# Altium schematic symbol library SILICA_SCHLIB.SchLib: 303 symbols (part 1 of 4)
Pins are listed as number, name and electrical type; pins without a type are passive.

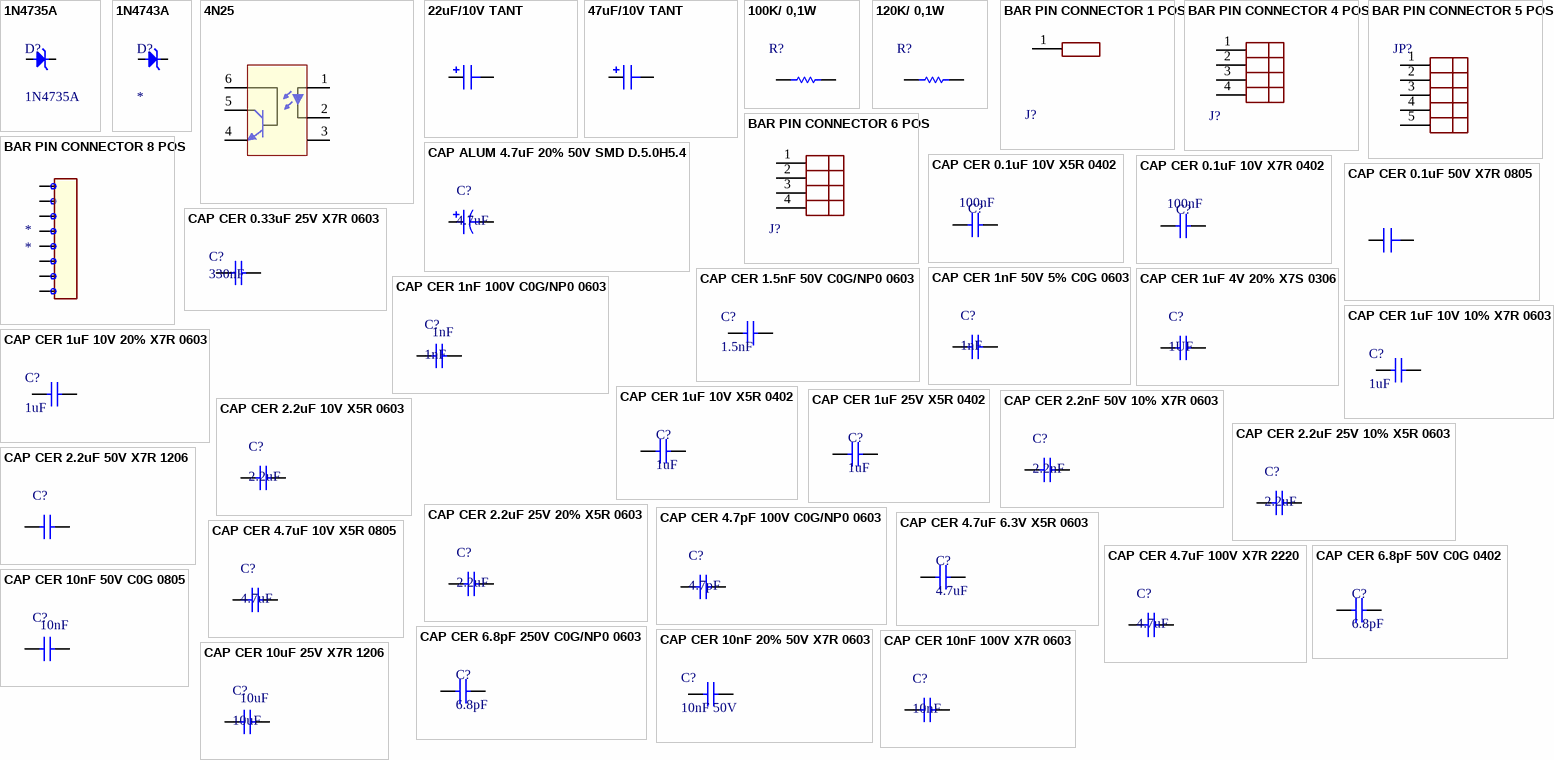
[diagram p0: symbols 1N4735A to CAP CER 10uF 25V X7R 1206]

## 1N4735A
designator D?
Diodo Zener 6,2V / 1W; FARCHILD: 1N4735A
footprint DO-41
pins: A, K

## 1N4743A
designator D?
Diodo Zener 13V / 1W; FARCHILD: 1N4743A
footprint DO-41
pins: A, K

## 4N25
designator U?
OPTICAL ISOLATOR; VISHAY: 4N25
footprint DIP-6 (OPTO)
footprint DIP-6 (OPTO)
pins: 1, 2, 3, 4, 5, 6

## 22uF/10V TANT
designator C?
22uF/10V TANT CASE B; AVX: TAJB226K010R
footprint CAP TANT CASE B - 1210 EIA (KEMET SERIES)
pins: 1, 2

## 47uF/10V TANT
designator C?
47uF/10V TANT CASE C; AVX: TAJC476K010R
footprint CAP TANT CASE C - 2310 EIA (AVX SERIES)
pins: 1, 2

## 100K/ 0,1W
designator R?, comment 100K / 0,1W  (value not drawn)
RESISTOR  100K / 0,1W SMD 0805 1%; VISHAY: CRCW0805100KFKEA; MULTICOMP: MC 0.1W 0805 1% 100K
footprint SMD_0805 (Generic 0805 SMD footprint)
pins: 1, 2

## 120K/ 0,1W
designator R?, comment 120K / 0,1W  (value not drawn)
RESISTOR  120K / 0,1W SMD 0805 1%; VISHAY: CRCW0805120KFKEB; MULTICOMP: MC 0.1W 0805 1% 120K
footprint SMD_0805 (Generic 0805 SMD footprint)
pins: 1, 2

## BAR PIN CONNECTOR 1 POS
designator J?  (value not drawn)
footprint BAR PIN 1 POS
pins: 1

## BAR PIN CONNECTOR 4 POS
designator J?  (value not drawn)
footprint BAR PIN CONNECTOR 4 POS
pins: 1, 2, 3, 4

## BAR PIN CONNECTOR 5 POS
designator JP?  (value not drawn)
footprint BAR PIN CONNECTOR 5 POS (BAR PIN CONNECTOR 6 POS)
pins: 1, 2, 3, 4, 5

## BAR PIN CONNECTOR 6 POS
designator J?  (value not drawn)
footprint BAR PIN CONNECTOR 4 POS
pins: 1, 2, 3, 4

## BAR PIN CONNECTOR 8 POS
designator *
footprint BAR PIN CONNECTOR 10 POS
pins: 1, 2, 3, 4, 5, 6, 7, 8

## CAP ALUM 4.7uF 20% 50V SMD D.5.0H5.4
designator C?, comment 4.7uF
4.7µF 50V Aluminum Electrolytic Capacitors Radial, Can - SMD  2000 Hrs @ 85°C; Manufacturer 1: Nichicon; Part Number 1: UWX1H4R7MCL1GB; VALUE: 4.7uF
pins: 1, 2

## CAP CER 0.1uF 10V X5R 0402
designator C?, comment 100nF
0.1µF ±10% 10V Ceramic Capacitor X5R 0402 (1005 Metric); Manufacturer Part Number 1: CL05A104KP5NNNC; Manufacturer 1: Samsung Electro-Mechanics; TYPE: SMD CAPACITOR; Supplier 1: Allied; Supplier 2: Newark; Supplier 3: Newark; Supplier 4: Newark; Supplier 5: Allied; Supplier 6: Digi-Key; Supplier 7: Digi-Key; Supplier 8: Digi-Key; Supplier 9: Digi-Key; Supplier Part Number 1: 70095395; Supplier Part Number 2: 81C8514; Supplier Part Number 3: 96M1117; Supplier Part Number 4: 49H5566; Supplier Part Number 5: 70096886; Supplier Part Number 6: 445-12156-2-ND; Supplier Part Number 7: 445-12156-1-ND; Supplier Part Number 8: 445-12156-6-ND; Supplier Part Number 9: 445-12157-2-ND; VALUE: 100nF
footprint SMD_0402
pins: 1, 2

## CAP CER 0.1uF 10V X7R 0402
designator C?, comment 100nF
0.1µF ±10% 10V Ceramic Capacitor X7R 0402 (1005 Metric); Part Number 1: GRM155R71A104KA01J; Manufacturer 1: Murata Electronics North America; TYPE: SMD CAPACITOR; Supplier 1: Digi-Key; Supplier 2: Digi-Key; Supplier 3: Digi-Key; Supplier 4: Digi-Key; Supplier 5: Digi-Key; Supplier 6: Digi-Key; Supplier 7: Digi-Key; Supplier 8: Digi-Key; Supplier 9: Digi-Key; Supplier Part Number 1: 490-6322-2-ND; Supplier Part Number 2: 399-3520-6-ND; Supplier Part Number 3: 399-8942-1-ND; Supplier Part Number 4: 399-3520-1-ND; Supplier Part Number 5: 1276-1002-2-ND; Supplier Part Number 6: 399-8942-6-ND; Supplier Part Number 7: 490-6322-6-ND; Supplier Part Number 8: 399-3520-2-ND; Supplier Part Number 9: 490-6322-1-ND; VALUE: 100nF
footprint SMD_0402
pins: 1, 2

## CAP CER 0.1uF 50V X7R 0805
designator C?, comment 0.1uF
0.1µF ±10% 50V Ceramic Capacitor X7R 0805 (2012 Metric); Manufacturer 1: AVX; AVX: 08055C104KAT2A; Part Number 1: 08055C104KAT2A
footprint SMD_0805 (Generic 0805 SMD footprint)
pins: 1, 2

## CAP CER 0.33uF 25V X7R 0603
designator C?, comment 330nF
0.33µF ±10% 25V Ceramic Capacitor X7R 0603 (1608 Metric); Manufacturer 1: Yageo; Part Number 1: CC0603KRX7R8BB334
footprint SMD_0603 (General SMD 0603 footprint)
pins: 1, 2

## CAP CER 1.5nF 50V C0G/NP0 0603
designator C?, comment 1.5nF
1500pF ±5% 50V Ceramic Capacitor C0G, NP0 0603 (1608 Metric); Part Number 1: C0603C152J5GACTU; Manufacturer 1: KEMET
footprint SMD_0603 (General SMD 0603 footprint)
pins: 1, 2

## CAP CER 1nF 50V 5% C0G 0603
designator C?, comment 1nF
1000pF ±5% 50V Ceramic Capacitor C0G, NP0 0603 (1608 Metric); Manufacturer 1: MURATA; DESCRIPITION: GRM1885C1H102JA01D; Part Number 1: GRM1885C1H102JA01D; VALUE: 1nF
footprint SMD_0603 (General SMD 0603 footprint)
pins: 1, 2

## CAP CER 1nF 100V C0G/NP0 0603
designator C?, comment 1nF
1000pF ±1% 100V Ceramic Capacitor C0G, NP0 0603 (1608 Metric); Part Number 1: GRM1885C2A102FA01D; Manufacturer 1: Murata Electronics North America; TYPE: SMD CAPACITOR; VALUE: 1nF
footprint SMD_0603 (General SMD 0603 footprint)
pins: 1, 2

## CAP CER 1uF 4V 20% X7S 0306
designator C?, comment 1UF
1µF ±20% 4V Ceramic Capacitor X7S 0306 (0816 Metric); Part Number 1: C0816X7S0G105M050AC; Manufacturer 1: TDK Corporation
footprint SMD_0306 (General SMD 0306 footprint)
pins: 1, 2

## CAP CER 1uF 10V 10% X7R 0603
designator C?, comment 1uF
1µF ±10% 10V Ceramic Capacitor X7R 0603 (1608 Metric); Manufacturer 1: Taiyo Yuden; TAIYO: LMK107B7105KA-T; Part Number 1: LMK107B7105KA-T
footprint SMD_0603 (General SMD 0603 footprint)
pins: 1, 2

## CAP CER 1uF 10V 20% X7R 0603
designator C?, comment 1uF
1µF ±10% 16V Ceramic Capacitor X7R 0603 (1608 Metric); Manufacturer 1: Samsung Electro-Mechanics; Part Number 1: CL10B105KO8NNNC; MURATA: GRM188R71A105MA61D
footprint SMD_0603 (General SMD 0603 footprint)
pins: 1, 2

## CAP CER 1uF 10V X5R 0402
designator C?, comment 1uF
0.1µF ±10% 10V Ceramic Capacitor X5R 0402 (1005 Metric); Manufacturer 1: AVX Corporation; Part Number 1: 0402ZD104KAT2A; Supplier 1: Digi-Key; Supplier 2: Digi-Key; Supplier 3: Digi-Key; Supplier 4: Digi-Key; Supplier 5: Digi-Key; Supplier 6: Digi-Key; Supplier 7: Digi-Key; Supplier 8: Digi-Key; Supplier 9: Digi-Key; Supplier 10: Digi-Key; Supplier Part Number 1: 478-1129-6-ND; Supplier Part Number 2: 490-1318-2-ND; Supplier Part Number 3: 478-1129-1-ND; Supplier Part Number 4: 490-1318-6-ND; Supplier Part Number 5: 587-1227-1-ND; Supplier Part Number 6: 490-1318-1-ND; Supplier Part Number 7: 587-1227-2-ND; Supplier Part Number 8: 587-1227-6-ND; Supplier Part Number 9: 445-1265-2-ND; Supplier Part Number 10: 478-1129-2-ND; VALUE: 1uF
footprint SMD_0402
pins: 1, 2

## CAP CER 1uF 25V X5R 0402
designator C?, comment 1uF
1µF ±10% 25V Ceramic Capacitor X5R 0402 (1005 Metric); Manufacturer 1: TDK Corporation; Part Number 1: CGB2A1X5R1E105K033BC; VALUE: 1uF; Supplier 1: RSComponents; Supplier 2: RSComponents; Supplier 3: RSComponents; Supplier 4: RSComponents; Supplier 5: RSComponents; Supplier 6: Digi-Key; Supplier 7: Digi-Key; Supplier 8: Digi-Key; Supplier 9: Digi-Key; Supplier 10: Digi-Key; Supplier 11: Digi-Key; Supplier 12: Digi-Key; Supplier 13: Digi-Key; Supplier 14: Digi-Key; Supplier 15: Digi-Key; Supplier Part Number 1: 9156323; Supplier Part Number 2: 1110310; Supplier Part Number 3: 1110311; Supplier Part Number 4: 9156332P; Supplier Part Number 5: 9156323P; Supplier Part Number 6: 445-175215-2-ND; Supplier Part Number 7: 587-3245-2-ND; Supplier Part Number 8: 445-9081-6-ND; Supplier Part Number 9: 445-9066-6-ND; Supplier Part Number 10: 587-3245-1-ND; Supplier Part Number 11: 445-9066-1-ND; Supplier Part Number 12: 445-9081-1-ND; Supplier Part Number 13: 445-9081-2-ND; Supplier Part Number 14: 445-9066-2-ND; Supplier Part Number 15: 587-3245-6-ND
footprint SMD_0402
pins: 1, 2

## CAP CER 2.2nF 50V 10% X7R 0603
designator C?, comment 2.2nF
2200pF ±10% 50V Ceramic Capacitor X7R 0603 (1608 Metric); Part Number 1: C1608X7R1H222K080AE; Manufacturer 1: TDK Corporation; VALUE: 2.2nF
footprint SMD_0603 (General SMD 0603 footprint)
pins: 1, 2

## CAP CER 2.2uF 10V X5R 0603
designator C?, comment 2.2uF
2.2µF ±10% 10V Ceramic Capacitor X5R 0603 (1608 Metric); Manufacturer 1: Samsung Electro-Mechanics; Part Number 1: CL10A225KP8NNNC; VALUE: 2.2uF; Supplier 1: RSComponents; Supplier 2: Digi-Key; Supplier 3: Digi-Key; Supplier 4: Digi-Key; Supplier 5: Digi-Key; Supplier 6: Digi-Key; Supplier 7: Digi-Key; Supplier 8: Digi-Key; Supplier 9: Digi-Key; Supplier 10: RSComponents; Supplier 11: RSComponents; Supplier 12: Digi-Key; Supplier 13: RSComponents; Supplier 14: RSComponents; Supplier 15: Digi-Key; Supplier Part Number 1: 6911158; Supplier Part Number 2: 445-7481-1-ND; Supplier Part Number 3: 445-12445-1-ND; Supplier Part Number 4: 399-4912-1-ND; Supplier Part Number 5: 587-4911-2-ND; Supplier Part Number 6: 445-7481-6-ND; Supplier Part Number 7: 445-12445-6-ND; Supplier Part Number 8: 399-4912-2-ND; Supplier Part Number 9: 445-12445-2-ND; Supplier Part Number 10: 691-1158; Supplier Part Number 11: 1721386; Supplier Part Number 12: 399-4912-6-ND; Supplier Part Number 13: 6911158P; Supplier Part Number 14: 691-1158P; Supplier Part Number 15: 445-7481-2-ND
footprint SMD_0603 (General SMD 0603 footprint)
pins: 1, 2

## CAP CER 2.2uF 25V 10% X5R 0603
designator C?, comment 2.2uF
2.2µF ±10% 25V Ceramic Capacitor X5R 0603 (1608 Metric); Part Number 1: C1608X5R1E225K080AB; Manufacturer 1: TDK Corporation; VALUE: 2.2uF
footprint SMD_0603 (General SMD 0603 footprint)
pins: 1, 2

## CAP CER 2.2uF 25V 20% X5R 0603
designator C?, comment 2.2uF
2.2µF ±20% 25V Ceramic Capacitor X5R 0603 (1608 Metric); Part Number 1: C1608X5R1E225M080AB; Manufacturer 1: TDK Corporation; VALUE: 2.2uF
footprint SMD_0603 (General SMD 0603 footprint)
pins: 1, 2

## CAP CER 2.2uF 50V X7R 1206
designator C?, comment 2.2uF  (value not drawn)
2.2µF ±10% 50V Ceramic Capacitor X7R 1206 (3216 Metric); Part Number 1: UMK316B7225KL-T; Manufacturer 1: Taiyo Yuden; VALUE: 2.2uF
footprint SMD_1206 (General SMD 1206 footprint)
pins: 1, 2

## CAP CER 4.7pF 100V C0G/NP0 0603
designator C?, comment 4.7pF
4.7pF ±0.1pF 100V Ceramic Capacitor C0G, NP0 0603 (1608 Metric); Part Number 1: GQM1885C2A4R7BB01D; Manufacturer 1: Murata Electronics North America; VALUE: 4.7pF
footprint SMD_0603 (General SMD 0603 footprint)
pins: 1, 2

## CAP CER 4.7uF 6.3V X5R 0603
designator C?, comment 4.7uF
4.7µF ±10% 6.3V Ceramic Capacitor X5R 0603 (1608 Metric); Part Number 1: CL10A475KQ8NNNC; Manufacturer 1: Samsung Electro-Mechanics; Supplier 1: Digi-Key; Supplier 2: Digi-Key; Supplier 3: Digi-Key; Supplier 4: Digi-Key; Supplier 5: Digi-Key; Supplier 6: Digi-Key; Supplier 7: Digi-Key; Supplier 8: Digi-Key; Supplier 9: Digi-Key; Supplier Part Number 1: 587-4906-6-ND; Supplier Part Number 2: 1276-2087-2-ND; Supplier Part Number 3: 1276-2087-1-ND; Supplier Part Number 4: 1276-2087-6-ND; Supplier Part Number 5: 587-4906-2-ND; Supplier Part Number 6: 587-4906-1-ND; Supplier Part Number 7: 311-3496-2-ND; Supplier Part Number 8: 311-3496-1-ND; Supplier Part Number 9: 311-3496-6-ND; VALUE: 4.7uF
footprint SMD_0603 (General SMD 0603 footprint)
pins: 1, 2

## CAP CER 4.7uF 10V X5R 0805
designator C?, comment 4.7uF
4.7µF ±10% 10V Ceramic Capacitor X5R 0805 (2012 Metric); Part Number 1: LMK212BJ475KD-T; Manufacturer 1: Taiyo Yuden; VALUE: 4.7uF
footprint SMD_0805 (Generic 0805 SMD footprint)
pins: 1, 2

## CAP CER 4.7uF 100V X7R 2220
designator C?, comment 4.7uF
4.7µF ±10% 100V Ceramic Capacitor X7R 2220 (5750 Metric); Part Number 1: 22201C475KAZ2A; Manufacturer 1: AVX Corporation; VALUE: 4.7uF
footprint SMD_2220
pins: 1, 2

## CAP CER 6.8pF 50V C0G 0402
designator C?, comment 6.8pF
6.8pF ±0.25pF 50V Ceramic Capacitor C0G, NP0 0402 (1005 Metric); Manufacturer Part Number 1: 04025A6R8CAT2A; Manufacturer 1: AVX Corporation; TYPE: SMD CAPACITOR; Supplier 1: Digi-Key; Supplier 2: Digi-Key; Supplier 3: Digi-Key; Supplier 4: Digi-Key; Supplier 5: RSComponents; Supplier 6: RSComponents; Supplier 7: Digi-Key; Supplier 8: Digi-Key; Supplier 9: Digi-Key; Supplier 10: Digi-Key; Supplier 11: Digi-Key; Supplier 12: Digi-Key; VALUE: 6.8pF; Supplier Part Number 1: 1276-1721-1-ND; Supplier Part Number 2: 1276-1721-6-ND; Supplier Part Number 3: 490-5950-2-ND; Supplier Part Number 4: 1276-1721-2-ND; Supplier Part Number 5: 1109726; Supplier Part Number 6: 9155578P; Supplier Part Number 7: 712-1291-2-ND; Supplier Part Number 8: 490-12599-1-ND; Supplier Part Number 9: 490-12599-6-ND; Supplier Part Number 10: 490-5950-6-ND; Supplier Part Number 11: 490-5950-1-ND; Supplier Part Number 12: 490-12599-2-ND
footprint SMD_0402
pins: 1, 2

## CAP CER 6.8pF 250V C0G/NP0 0603
designator C?, comment 6.8pF
6.8pF ±0.25pF 250V Ceramic Capacitor C0G, NP0 0603 (1608 Metric); Manufacturer 1: KEMET; Part Number 1: CBR06C689CAGAC; VALUE: 6.8pF
footprint SMD_0603 (General SMD 0603 footprint)
pins: 1, 2

## CAP CER 10nF 20% 50V X7R 0603
designator C?, comment 10nF 50V
10000pF ±10% 50V Ceramic Capacitor X7R 0603 (1608 Metric); Part Number 1: 06035C103KAT4A; Manufacturer 1: AVX Corporation; MURATA: GRM188R71H103KA01D; MOUSER: http://br.mouser.com/ProductDetail/Murata-Electronics/GRM188R71H103KA01D/?qs=WWniysbtxULrL2ljbViAbw==
footprint SMD_0603 (General SMD 0603 footprint)
pins: 1, 2

## CAP CER 10nF 50V C0G 0805
designator C?, comment 10nF
10000pF ±5% 50V Ceramic Capacitor C0G, NP0 0805 (2012 Metric); Manufacturer 1: TDK Corporation; Part Number 1: CGJ4C2C0G1H103J060AA; VALUE: 10nF
footprint SMD_0805 (Generic 0805 SMD footprint)
pins: 1, 2

## CAP CER 10nF 100V X7R 0603
designator C?, comment 10nF
10000pF ±10% 100V Ceramic Capacitor X7R 0603 (1608 Metric); Part Number 1: C1608X7R2A103K080AA; Manufacturer 1: TDK Corporation; VALUE: 10nF
footprint SMD_0603 (General SMD 0603 footprint)
pins: 1, 2

## CAP CER 10uF 25V X7R 1206
designator C?, comment 10uF
10µF ±10% 25V Ceramic Capacitor X7R 1206 (3216 Metric); Part Number 1: C3216X7R1E106K160AB; Manufacturer 1: TDK Corporation; VALUE: 10uF
footprint SMD_1206 (General SMD 1206 footprint)
pins: 1, 2

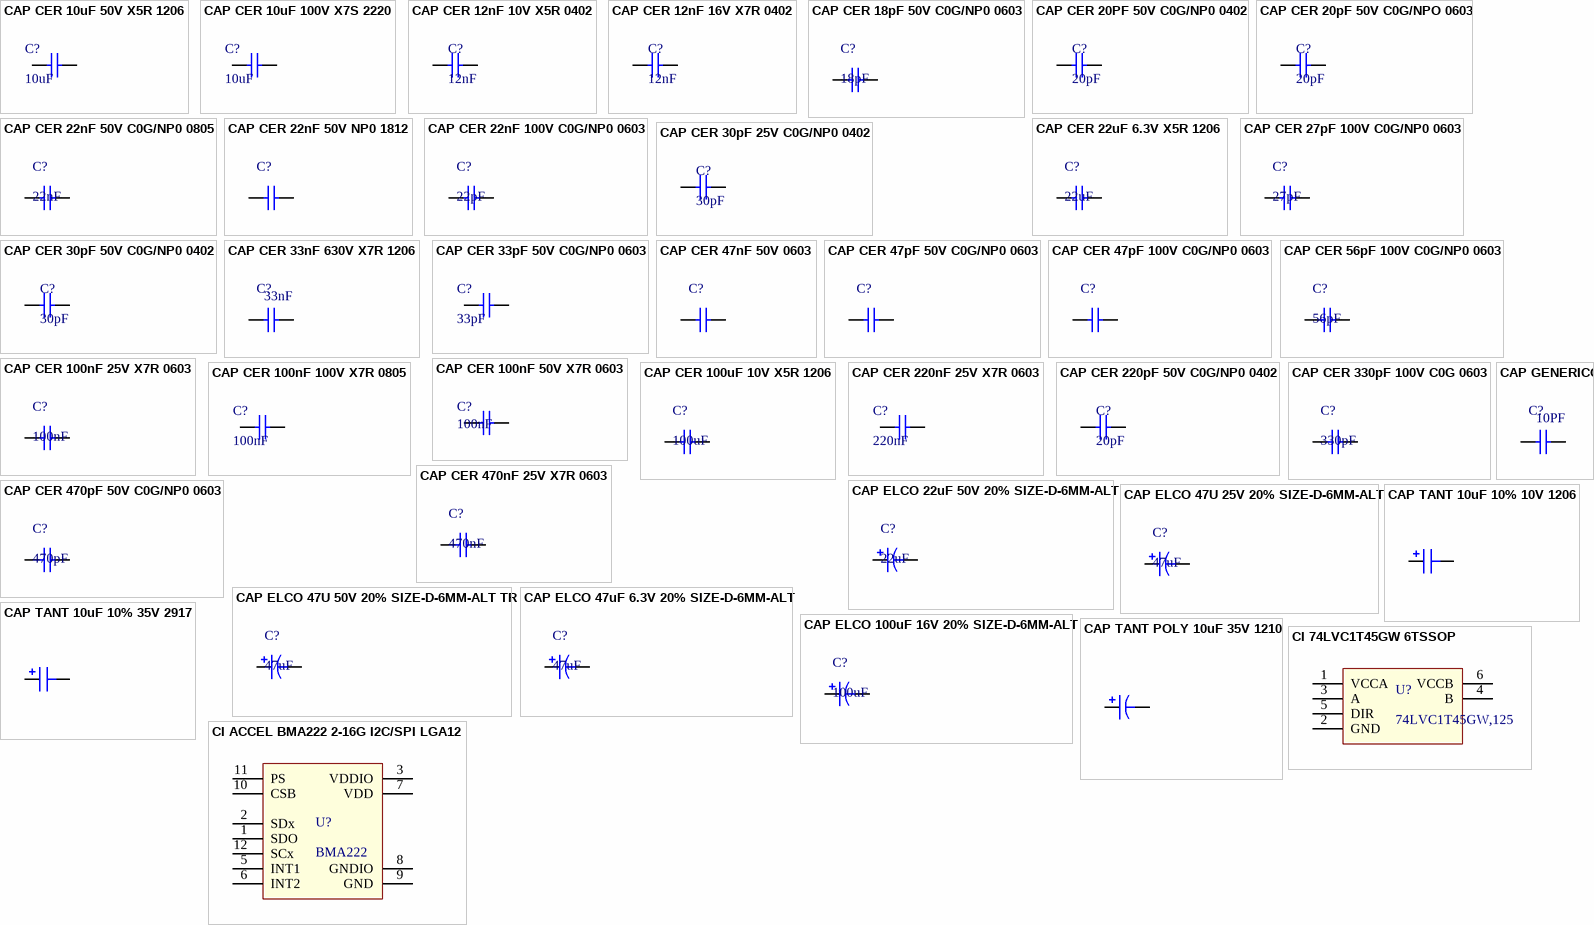
[diagram p1: symbols CAP CER 10uF 50V X5R 1206 to CI ACCEL BMA222 2-16G I2C/SPI LGA12]

## CAP CER 10uF 50V X5R 1206
designator C?, comment 10uF
10µF ±20% 50V Ceramic Capacitor X5R 1206 (3216 Metric); Part Number 1: UMK316BBJ106ML-T; Manufacturer 1: Taiyo Yuden; VALUE: 10uF
footprint SMD_1206 (General SMD 1206 footprint)
pins: 1, 2

## CAP CER 10uF 100V X7S 2220
designator C?, comment 10uF
10µF ±20% 100V Ceramic Capacitor X7S 2220 (5750 Metric); Part Number 1: CGA9N3X7S2A106M230KE; Manufacturer 1: TDK Corporation
footprint SMD_2220
pins: 1, 2

## CAP CER 12nF 10V X5R 0402
designator C?, comment 12nF
0.012µF ±10% 10V Ceramic Capacitor X5R 0402 (1005 Metric); Manufacturer 1: KEMET; Part Number 1: C0402C123K8PACTU; VALUE: 12nF; Supplier 1: Digi-Key; Supplier 2: Digi-Key; Supplier 3: Digi-Key; Supplier Part Number 1: 399-3009-2-ND; Supplier Part Number 2: 399-3009-1-ND; Supplier Part Number 3: 399-3009-6-ND
footprint SMD_0402
pins: 1, 2

## CAP CER 12nF 16V X7R 0402
designator C?, comment 12nF
±10% 16V Ceramic Capacitor X7R 0402 (1005 Metric); Manufacturer 1: Yageo; Part Number 1: CC0402KRX7R7BB123; VALUE: 12nF; Supplier 1: Digi-Key; Supplier 2: Digi-Key; Supplier 3: Digi-Key; Supplier 4: RSComponents; Supplier 5: Digi-Key; Supplier 6: RSComponents; Supplier 7: Digi-Key; Supplier 8: RSComponents; Supplier 9: Digi-Key; Supplier 10: Digi-Key; Supplier 11: Digi-Key; Supplier 12: Digi-Key; Supplier 13: Digi-Key; Supplier 14: RSComponents; Supplier Part Number 1: 490-16765-2-ND; Supplier Part Number 2: 478-1115-2-ND; Supplier Part Number 3: 478-1115-6-ND; Supplier Part Number 4: 790-2789P; Supplier Part Number 5: 478-1115-1-ND; Supplier Part Number 6: 790-2789; Supplier Part Number 7: 311-3800-6-ND; Supplier Part Number 8: 7902789; Supplier Part Number 9: 490-3255-2-ND; Supplier Part Number 10: 490-16765-6-ND; Supplier Part Number 11: 311-3800-1-ND; Supplier Part Number 12: 311-3800-2-ND; Supplier Part Number 13: 490-16765-1-ND; Supplier Part Number 14: 7902789P
footprint SMD_0402
pins: 1, 2

## CAP CER 18pF 50V C0G/NP0 0603
designator C?, comment 18pF
18pF ±5% 50V Ceramic Capacitor C0G, NP0 0603 (1608 Metric); Part Number 1: VJ0603A180JXACW1BC; Manufacturer 1: Vishay Vitramon; VALUE: 18pF
footprint SMD_0603 (General SMD 0603 footprint)
pins: 1, 2

## CAP CER 20PF 50V C0G/NP0 0402
designator C?, comment 20pF
20pF ±5% 50V Ceramic Capacitor C0G, NP0 0402 (1005 Metric); Manufacturer 1: Samsung Electro-Mechanics; Part Number 1: CL05C200JB5NNNC; VALUE: 20pF; Supplier 1: Digi-Key; Supplier 2: Digi-Key; Supplier 3: Digi-Key; Supplier 4: RSComponents; Supplier 5: Digi-Key; Supplier 6: Digi-Key; Supplier 7: Digi-Key; Supplier 8: Digi-Key; Supplier 9: RSComponents; Supplier 10: Digi-Key; Supplier 11: Digi-Key; Supplier 12: Digi-Key; Supplier 13: RSComponents; Supplier 14: RSComponents; Supplier 15: RSComponents; Supplier 16: RSComponents; Supplier 17: RSComponents; Supplier 18: RSComponents; Supplier 19: RSComponents; Supplier 20: RSComponents; Supplier 21: RSComponents; Supplier 22: RSComponents; Supplier 23: RSComponents; Supplier 24: RSComponents; Supplier 25: RSComponents; Supplier 26: RSComponents; Supplier 27: RSComponents; Supplier Part Number 1: 399-8786-1-ND; Supplier Part Number 2: 399-8786-2-ND; Supplier Part Number 3: 490-3120-6-ND; Supplier Part Number 4: 801-5167; Supplier Part Number 5: 712-1273-2-ND; Supplier Part Number 6: 399-8786-6-ND; Supplier Part Number 7: 478-5764-1-ND; Supplier Part Number 8: 490-3120-2-ND; Supplier Part Number 9: 801-5167P; Supplier Part Number 10: 490-3120-1-ND; Supplier Part Number 11: 478-5764-2-ND; Supplier Part Number 12: 478-5764-6-ND; Supplier Part Number 13: 8015167; Supplier Part Number 14: 814-5561; Supplier Part Number 15: 8145561; Supplier Part Number 16: 814-5561P; Supplier Part Number 17: 8145558; Supplier Part Number 18: 1352536; Supplier Part Number 19: 7697080P; Supplier Part Number 20: 814-5558; Supplier Part Number 21: 7697080; Supplier Part Number 22: 8145561P; Supplier Part Number 23: 769-7080; Supplier Part Number 24: 814-5558P; Supplier Part Number 25: 769-7080P; Supplier Part Number 26: 8145558P; Supplier Part Number 27: 8015167P
footprint SMD_0402
pins: 1, 2

## CAP CER 20pF 50V C0G/NPO 0603
designator C?, comment 20pF
20pF ±5% 50V Ceramic Capacitor C0G, NP0 0603 (1608 Metric); Part Number 1: CC0603JRNPO9BN200; Manufacturer 1: Yageo; VALUE: 20pF
footprint SMD_0603 (General SMD 0603 footprint)
pins: 1, 2

## CAP CER 22nF 50V C0G/NP0 0805
designator C?, comment 22nF
0.022µF ±5% 50V Ceramic Capacitor C0G, NP0 0805 (2012 Metric); Part Number 1: GRM21B5C1H223JA01L; Manufacturer 1: Murata Electronics North America; VALUE: 22nF
footprint SMD_0805 (Generic 0805 SMD footprint)
pins: 1, 2

## CAP CER 22nF 50V NP0 1812
designator C?, comment 22nF  (value not drawn)
0.022µF ±5% 50V Ceramic Capacitor C0G, NP0 1812 (4532 Metric); Manufacturer 1: AVX Corporation; Part Number 1: 18125A223JAT2A; VALUE: 22nF
footprint SMD_1812 (General SMD 1812 footprint)
pins: 1, 2

## CAP CER 22nF 100V C0G/NP0 0603
designator C?, comment 22pF
22pF ±5% 100V Ceramic Capacitor C0G, NP0 0603 (1608 Metric); Manufacturer 1: Murata Electronics North America; Part Number 1: GRM1885C2A220JA01D; VALUE: 22pF
footprint SMD_0603 (General SMD 0603 footprint)
pins: 1, 2

## CAP CER 22uF 6.3V X5R 1206
designator C?, comment 22uF
22µF ±10% 6.3V Ceramic Capacitor X5R 1206 (3216 Metric); Manufacturer 1: Samsung Electro-Mechanics; Part Number 1: CL31A226KQHNNNE; VALUE: 22uF
footprint SMD_1206 (General SMD 1206 footprint)
pins: 1, 2

## CAP CER 27pF 100V C0G/NP0 0603
designator C?, comment 27pF
27pF ±10% 100V Ceramic Capacitor C0G, NP0 0603 (1608 Metric); Manufacturer 1: AVX Corporation; Part Number 1: 06031A270KAT2A; VALUE: 27pF
footprint SMD_0603 (General SMD 0603 footprint)
pins: 1, 2

## CAP CER 30pF 25V C0G/NP0 0402
designator C?, comment 30pF
30pF ±2% 25V Ceramic Capacitor C0G, NP0 0402 (1005 Metric); VALUE: 30pF; Supplier 1: Digi-Key; Supplier 2: Digi-Key; Supplier 3: Digi-Key; Supplier 4: Digi-Key; Supplier 5: Digi-Key; Supplier 6: Digi-Key; Supplier 7: Farnell; Supplier 8: Newark; Supplier 9: Digi-Key; Supplier 10: Digi-Key; Supplier 11: Newark; Supplier 12: Digi-Key; Supplier 13: Digi-Key; Supplier 14: Farnell; Supplier 15: Farnell; Supplier 16: Farnell; Supplier 17: Farnell; Supplier Part Number 1: 490-8176-1-ND; Supplier Part Number 2: 490-8176-2-ND; Supplier Part Number 3: 712-1596-2-ND; Supplier Part Number 4: 712-1595-6-ND; Supplier Part Number 5: 490-8176-6-ND; Supplier Part Number 6: 712-1595-1-ND; Supplier Part Number 7: 2678276; Supplier Part Number 8: 96M1336; Supplier Part Number 9: 712-1596-1-ND; Supplier Part Number 10: 490-7752-2-ND; Supplier Part Number 11: 96Y8175; Supplier Part Number 12: 712-1596-6-ND; Supplier Part Number 13: 712-1595-2-ND; Supplier Part Number 14: 2678259; Supplier Part Number 15: 2680053; Supplier Part Number 16: 2280762; Supplier Part Number 17: 1740653
footprint SMD_0402
pins: 1, 2

## CAP CER 30pF 50V C0G/NP0 0402
designator C?, comment 30pF
30pF ±5% 50V Ceramic Capacitor C0G, NP0 0402 (1005 Metric); Manufacturer 1: Samsung Electro-Mechanics; Part Number 1: CL05C300JB5NNNC; VALUE: 30pF; Supplier 1: RSComponents; Supplier 2: RSComponents; Supplier 3: RSComponents; Supplier 4: RSComponents; Supplier 5: Digi-Key; Supplier 6: Digi-Key; Supplier 7: Digi-Key; Supplier 8: Digi-Key; Supplier 9: Digi-Key; Supplier 10: Digi-Key; Supplier 11: Digi-Key; Supplier 12: Digi-Key; Supplier 13: Digi-Key; Supplier 14: Digi-Key; Supplier Part Number 1: 8145634P; Supplier Part Number 2: 8145634; Supplier Part Number 3: 814-5634P; Supplier Part Number 4: 814-5634; Supplier Part Number 5: 399-7785-2-ND; Supplier Part Number 6: 712-1295-1-ND; Supplier Part Number 7: 712-1296-2-ND; Supplier Part Number 8: 712-1296-6-ND; Supplier Part Number 9: 712-1295-2-ND; Supplier Part Number 10: 712-1296-1-ND; Supplier Part Number 11: 712-1295-6-ND; Supplier Part Number 12: 490-5935-1-ND; Supplier Part Number 13: 490-5935-6-ND; Supplier Part Number 14: 490-5935-2-ND
footprint SMD_0402
pins: 1, 2

## CAP CER 33nF 630V X7R 1206
designator C?, comment 33nF
0.033µF ±10% 630V Ceramic Capacitor X7R 1206 (3216 Metric); Manufacturer 1: TDK Corporation; Part Number 1: C3216X7R2J333K160AA; Supplier 1: Digi-Key; Supplier 2: Digi-Key; Supplier 3: Digi-Key; Supplier 4: Arrow; Supplier 5: Mouser; Supplier 6: RSComponents; Supplier 7: Avnet; Supplier 8: Avnet; Supplier 9: Farnell; Supplier 10: RSComponents; Supplier 11: RSComponents; Supplier 12: Newark; Supplier 13: Newark; Supplier 14: Newark; Supplier 15: RSComponents; Supplier 16: RSComponents; Supplier 17: Arrow; Supplier 18: Future Electronics; Supplier 19: Future Electronics; Supplier Part Number 9: 1844644; Supplier Part Number 8: C3216X7R2J333K160AA; Supplier Part Number 7: 91R0107; Supplier Part Number 6: 740-7644P; Supplier Part Number 5: 810-C3216X7R2J333K; Supplier Part Number 4: C3216X7R2J333K160AA; Supplier Part Number 3: 445-4491-2-ND; Supplier Part Number 2: 445-4491-6-ND; Supplier Part Number 19: C3216X7R2J333K160AA; Supplier Part Number 18: 8024090; Supplier Part Number 17: C3216X7R2J333K160AA**MUL; Supplier Part Number 16: 740-7644; Supplier Part Number 15: 7407644P; Supplier Part Number 14: 91R0107; Supplier Part Number 13: 27AC3698; Supplier Part Number 12: 87R4381; Supplier Part Number 11: 7407644; Supplier Part Number 10: 9213965; Supplier Part Number 1: 445-4491-1-ND; VALUE: 33nF
footprint SMD_1206 (General SMD 1206 footprint)
pins: 1, 2

## CAP CER 33pF 50V C0G/NP0 0603
designator C?, comment 33pF
33pF ±5% 50V Ceramic Capacitor C0G, NP0 0603 (1608 Metric); Manufacturer 1: Murata Electronics North America; MURATA: GRM1885C1H330JA01D; Part Number 1: GRM1885C1H330JA01D
footprint SMD_0603 (General SMD 0603 footprint)
pins: 1, 2

## CAP CER 47nF 50V 0603
designator C?, comment 47nF  (value not drawn)
0.047µF ±10% 50V Ceramic Capacitor X7R 0603 (1608 Metric); Manufacturer 1: TDK Corporation; Part Number 1: CGA3E2X7R1H473K080AD
footprint SMD_0603 (General SMD 0603 footprint)
pins: 1, 2

## CAP CER 47pF 50V C0G/NP0 0603
designator C?, comment 47pF  (value not drawn)
47pF ±5% 50V Ceramic Capacitor C0G, NP0 0603 (1608 Metric); Part Number 1: 06035A470JAT2A; Manufacturer 1: AVX Corporation; TYPE: SMD CAPACITOR; VALUE: 47pF; Supplier 1: Digi-Key; Supplier 2: Digi-Key; Supplier 3: Digi-Key; Supplier 4: Digi-Key; Supplier 5: Digi-Key; Supplier 6: Digi-Key; Supplier 7: Digi-Key; Supplier 8: Digi-Key; Supplier 9: Digi-Key; Supplier Part Number 1: 478-1171-2-ND; Supplier Part Number 2: 478-1171-6-ND; Supplier Part Number 3: 709-1145-6-ND; Supplier Part Number 4: 709-1145-1-ND; Supplier Part Number 5: 709-1145-2-ND; Supplier Part Number 6: 478-1171-1-ND; Supplier Part Number 7: 478-6203-6-ND; Supplier Part Number 8: 478-6203-1-ND; Supplier Part Number 9: 478-6203-2-ND
footprint SMD_0603 (General SMD 0603 footprint)
pins: 1, 2

## CAP CER 47pF 100V C0G/NP0 0603
designator C?, comment 47pF  (value not drawn)
47pF ±10% 100V Ceramic Capacitor C0G, NP0 0603 (1608 Metric); Part Number 1: 06031A470KAT2A; Manufacturer 1: AVX Corporation; VALUE: 47pF
footprint SMD_0603 (General SMD 0603 footprint)
pins: 1, 2

## CAP CER 56pF 100V C0G/NP0 0603
designator C?, comment 56pF
56pF ±5% 100V Ceramic Capacitor C0G, NP0 0603 (1608 Metric); Part Number 1: 06031A560JAT2A; Manufacturer 1: AVX Corporation; VALUE: 56pF; Supplier 1: Digi-Key; Supplier 2: Digi-Key; Supplier 3: Digi-Key; Supplier 4: Future Electronics; Supplier 5: Avnet; Supplier 6: Arrow; Supplier 7: Mouser; Supplier 8: Farnell; Supplier 9: RSComponents; Supplier 10: Newark; Supplier 11: Allied Electronics; Supplier 12: Newark; Supplier 13: RSComponents; Supplier 14: Future Electronics; Supplier 15: Future Electronics; Supplier 16: Future Electronics; Supplier Part Number 1: 478-4993-1-ND; Supplier Part Number 10: 65H7693; Supplier Part Number 11: 70001392; Supplier Part Number 12: 96M1230; Supplier Part Number 13: 888-2046; Supplier Part Number 14: 06031A560JAT2A-REEL; Supplier Part Number 15: 1234939; Supplier Part Number 16: 6999544; Supplier Part Number 2: 478-4993-6-ND; Supplier Part Number 3: 478-4993-2-ND; Supplier Part Number 4: 06031A560JAT2A-CUTT; Supplier Part Number 5: 06031A560JAT2A; Supplier Part Number 9: 8882046; Supplier Part Number 8: 1396454; Supplier Part Number 6: 06031A560JAT2A; Supplier Part Number 7: 581-06031A560J
footprint SMD_0603 (General SMD 0603 footprint)
pins: 1, 2

## CAP CER 100nF 25V X7R 0603
designator C?, comment 100nF
0.1µF ±5% 25V Ceramic Capacitor X7R 0603 (1608 Metric); Part Number 1: C0603C104J3RACTU; Manufacturer 1: KEMET; VALUE: 100nF; Supplier 1: Digi-Key; Supplier 2: Digi-Key; Supplier 3: Digi-Key; Supplier 4: Farnell; Supplier 5: Arrow; Supplier 6: Mouser; Supplier 7: RSComponents; Supplier 8: RSComponents; Supplier 9: Farnell; Supplier 10: Farnell; Supplier 11: Avnet; Supplier 12: RSComponents; Supplier 13: Newark; Supplier 14: Newark; Supplier 15: Newark; Supplier 16: Allied Electronics; Supplier 17: Allied Electronics; Supplier 18: Newark; Supplier 19: Newark; Supplier 20: RSComponents; Supplier 21: RSComponents; Supplier 22: Arrow; Supplier 23: Avnet; Supplier 24: Avnet; Supplier 25: Avnet; Supplier Part Number 1: 399-1282-1-ND; Supplier Part Number 10: 2392300; Supplier Part Number 11: C0603C104J3RACTU; Supplier Part Number 12: 1466422; Supplier Part Number 13: 66W8707; Supplier Part Number 14: 79C3853; Supplier Part Number 15: 01J3308; Supplier Part Number 16: 70096967; Supplier Part Number 17: 70095456; Supplier Part Number 5: C0603C104J3RACTU; Supplier Part Number 4: 1650833; Supplier Part Number 3: 399-1282-2-ND; Supplier Part Number 25: C0603C104J3RAC TU; Supplier Part Number 24: C0603C104J3RAC TU/BKN; Supplier Part Number 23: C0603C104J3RAC>; Supplier Part Number 22: C0603C104J3RACTU**MULT1; Supplier Part Number 21: 801-5237P; Supplier Part Number 20: 801-5237; Supplier Part Number 2: 399-1282-6-ND; Supplier Part Number 19: 36X2612; Supplier Part Number 18: 32X7059; Supplier Part Number 9: 1650833RL; Supplier Part Number 8: 8015237; Supplier Part Number 7: 8015237P; Supplier Part Number 6: 80-C0603C104J3R
footprint SMD_0603 (General SMD 0603 footprint)
pins: 1, 2

## CAP CER 100nF 50V X7R 0603
designator C?, comment 100nF
0.1µF ±20% 50V Ceramic Capacitor X7R 0603 (1608 Metric); Manufacturer 1: AVX Corporation; Part Number 1: 06035C104MAT2A
footprint SMD_0603 (General SMD 0603 footprint)
pins: 1, 2

## CAP CER 100nF 100V X7R 0805
designator C?, comment 100nF
0.1µF ±10% 100V Ceramic Capacitor X7R 0805 (2012 Metric); Manufacturer 1: Murata Electronics North America; MURATA: GCM21BR72A104KA37L; Part Number 1: GCM21BR72A104KA37L
footprint SMD_0805 (Generic 0805 SMD footprint)
pins: 1, 2

## CAP CER 100uF 10V X5R 1206
designator C?, comment 100uF
100µF ±20% 10V Ceramic Capacitor X5R 1206 (3216 Metric); Part Number 1: C3216X5R1A107M160AC; Manufacturer 1: TDK Corporation; VALUE: 100uF
footprint SMD_1206 (General SMD 1206 footprint)
pins: 1, 2

## CAP CER 220nF 25V X7R 0603
designator C?, comment 220nF
0.22µF ±10% 25V Ceramic Capacitor X7R 0603 (1608 Metric); Manufacturer 1: Taiyo Yuden; TAIYO: TMK107B7224KA-T; Part Number 1: TMK107B7224KA-T
footprint SMD_0603 (General SMD 0603 footprint)
pins: 1, 2

## CAP CER 220pF 50V C0G/NP0 0402
designator C?, comment 20pF
220pF ±5% 50V Ceramic Capacitor C0G, NP0 0402 (1005 Metric); Part Number 1: GRM1555C1H221JA01D; Manufacturer 1: Murata Electronics North America; VALUE: 20pF
footprint SMD_0402
pins: 1, 2

## CAP CER 330pF 100V C0G 0603
designator C?, comment 330pF
330pF ±5% 100V Ceramic Capacitor C0G, NP0 0603 (1608 Metric); Part Number 1: C1608C0G2A331J080AA; Manufacturer 1: TDK Corporation; VALUE: 330pF
footprint SMD_0603 (General SMD 0603 footprint)
pins: 1, 2

## CAP CER 470nF 25V X7R 0603
designator C?, comment 470nF
0.47µF ±10% 25V Ceramic Capacitor X7R 0603 (1608 Metric); Manufacturer 1: AVX Corporation; Part Number 1: 06033C474KAT2A; VALUE: 470nF
footprint SMD_0603 (General SMD 0603 footprint)
pins: 1, 2

## CAP CER 470pF 50V C0G/NP0 0603
designator C?, comment 470pF
470pF ±5% 50V Ceramic Capacitor C0G, NP0 0603 (1608 Metric); Part Number 1: GRM1885C1H471JA01D; Manufacturer 1: Murata Electronics North America; VALUE: 470pF
footprint SMD_0603 (General SMD 0603 footprint)
pins: 1, 2

## CAP ELCO 22uF 50V 20% SIZE-D-6MM-ALT
designator C?, comment 22uF
22µF 50V Aluminum Electrolytic Capacitors Radial, Can - SMD  2000 Hrs @ 105°C; Part Number 1: EEE-FK1H220P; Manufacturer 1: Panasonic Electronic Components; VALUE: 22uF
footprint CAPFK Size D (Aluminum Electrolytic Capacitors / Surface Mount Type / Series: FK Type: V)
pins: 1, 2

## CAP ELCO 47U 25V 20% SIZE-D-6MM-ALT
designator C?, comment 47uF
47µF 25V Aluminum Electrolytic Capacitors Radial, Can - SMD  2000 Hrs @ 105°C; Part Number 1: UCL1E470MCL1GS; Manufacturer 1: Nichicon; VALUE: 47uF
footprint CAPFK Size D (Aluminum Electrolytic Capacitors / Surface Mount Type / Series: FK Type: V)
pins: 1, 2

## CAP ELCO 47U 50V 20% SIZE-D-6MM-ALT TR
designator C?, comment 47uF
47µF 50V Aluminum Electrolytic Capacitors Radial, Can - SMD  2000 Hrs @ 85°C; Manufacturer 1: Panasonic Electronic Components; Part Number 1: EEE-1HA470XP; VALUE: 47uF
footprint CAPFK Size D (Aluminum Electrolytic Capacitors / Surface Mount Type / Series: FK Type: V)
pins: 1, 2

## CAP ELCO 47uF 6.3V 20% SIZE-D-6MM-ALT
designator C?, comment 47uF
47µF 6.3V Aluminum Electrolytic Capacitors Radial, Can - SMD  2000 Hrs @ 85°C; Part Number 1: EEE-0JA470SR; Manufacturer 1: Panasonic Electronic Components; VALUE: 47uF
footprint CAPFK Size D (Aluminum Electrolytic Capacitors / Surface Mount Type / Series: FK Type: V)
pins: 1, 2

## CAP ELCO 100uF 16V 20% SIZE-D-6MM-ALT
designator C?, comment 100uF
100µF 16V Aluminum Electrolytic Capacitors Radial, Can - SMD  2000 Hrs @ 105°C; Part Number 1: UUD1C101MCL1GS; Manufacturer 1: Nichicon; VALUE: 100uF
footprint CAPFK Size D (Aluminum Electrolytic Capacitors / Surface Mount Type / Series: FK Type: V)
pins: 1, 2

## CAP GENERICO
designator C?  value 10PF  (hidden comment: *)
TYPE: CAPACITOR
pins: 1, 2

## CAP TANT 10uF 10% 10V 1206
designator C?, comment 10uF
10µF Molded Tantalum Capacitors 10V 1206 (3216 Metric) 3.8Ohm; Part Number 1: T491A106K010AT; Manufacturer 1: KEMET
footprint CAP TANT CASE A - 1206 EIA (KEMET SERIES)
pins: 1, 2

## CAP TANT 10uF 10% 35V 2917
designator C?, comment 10uF
10µF Molded Tantalum Capacitors 35V 2917 (7343 Metric) 800mOhm; Part Number 1: 293D106X9035D2TE3; Manufacturer 1: Vishay Sprague
footprint CAP TANT CASE D - 2917 EIA (AVX SERIES)
pins: 1, 2

## CAP TANT POLY 10uF 35V 1210
designator C?, comment 10uF
10µF Molded Tantalum Polymer Capacitor 35V 1411 (3528 Metric), 1210 200mOhm @ 100kHz; Part Number 1: TCJB106M035R0200; Manufacturer 1: AVX Corporation
footprint RUBS
pins: 1, 2

## CI 74LVC1T45GW 6TSSOP
designator U?, comment 74LVC1T45GW,125
Voltage Level Translator Bidirectional 1 Circuit 1 Channel 420Mbps 6-TSSOP; Manufacturer 1: Nexperia USA Inc.; Manufacturer Part Number 1: 74LVC1T45GW,125
footprint SOT363 (plastic, surface-mounted package; 6 leads; 0.65 mm pitch; 2 mm x 1.25 mm x 0.95 mm body)
pins: 1 VCCA, 2 GND, 3 A, 4 B, 5 DIR, 6 VCCB

## CI ACCEL BMA222 2-16G I2C/SPI LGA12
designator U?, comment BMA222
Accelerometer X, Y, Z Axis ±2g, 4g, 8g, 16g 8Hz ~ 1kHz 12-LGA (2x2); Manufacturer 1: Bosch Sensortec; Value: BMA222; Manufacturer Part Number 1: BMA222
footprint LGA-12-2x2
pins: 1 SDO, 2 SDx, 3 VDDIO, 5 INT1, 6 INT2, 7 VDD, 8 GNDIO, 9 GND, 10 CSB, 11 PS, 12 SCx

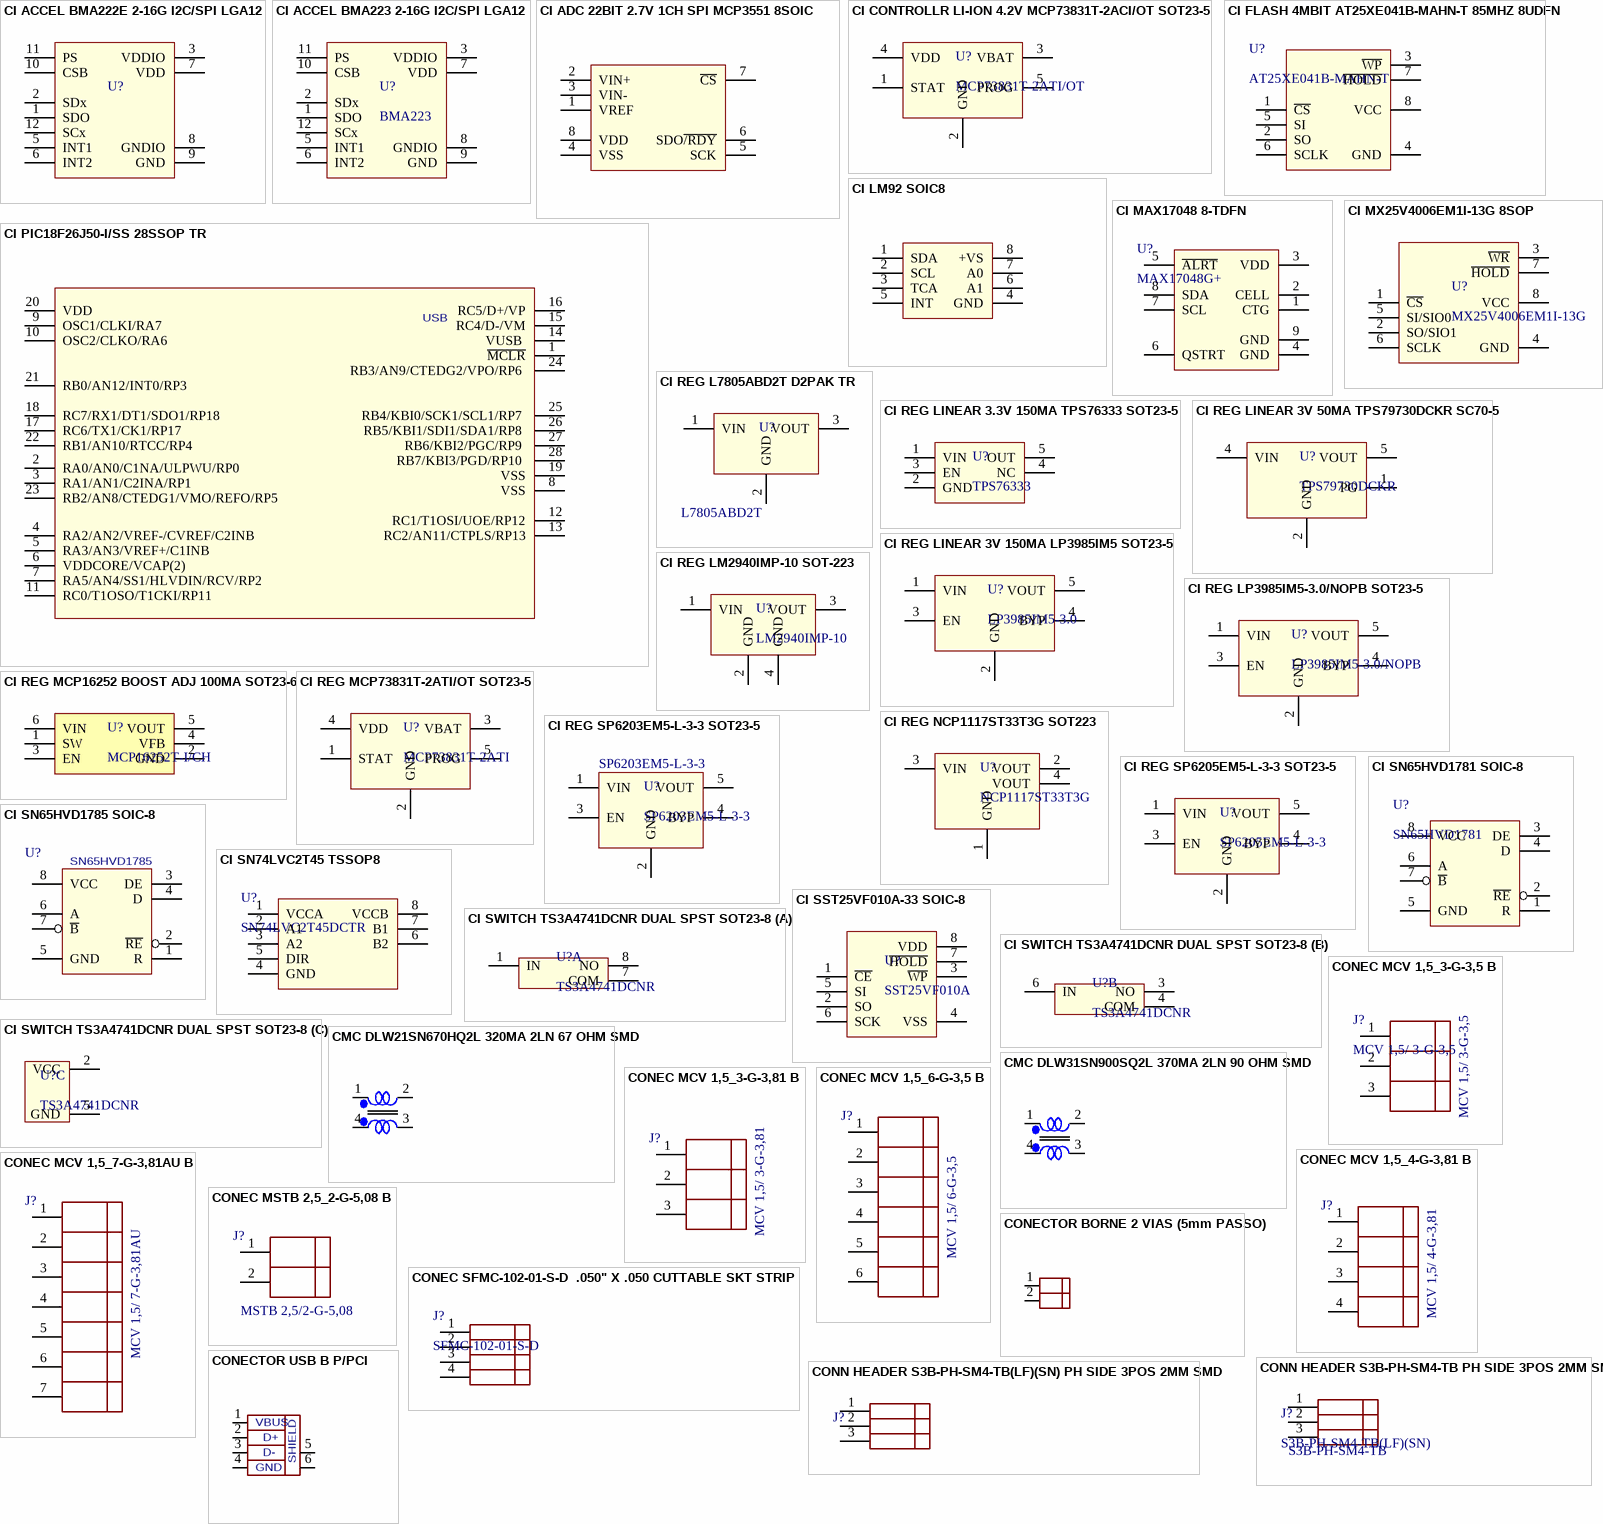
[diagram p2: symbols CI ACCEL BMA222E 2-16G I2C/SPI LGA12 to CONN HEADER S3B-PH-SM4-TB(LF)(SN) PH SIDE 3POS 2MM SMD]

## CI ACCEL BMA222E 2-16G I2C/SPI LGA12
designator U?, comment BMA222E  (value not drawn)
Accelerometer X, Y, Z Axis ±2g, 4g, 8g, 16g 8Hz ~ 1kHz 12-LGA (2x2); Manufacturer 1: Bosch Sensortec; Value: BMA222E; Manufacturer Part Number 1: BMA222E
footprint LGA-12-2x2
pins: 1 SDO, 2 SDx, 3 VDDIO, 5 INT1, 6 INT2, 7 VDD, 8 GNDIO, 9 GND, 10 CSB, 11 PS, 12 SCx

## CI ACCEL BMA223 2-16G I2C/SPI LGA12
designator U?, comment BMA223
Accelerometer X, Y, Z Axis ±2g, 4g, 8g, 16g 8Hz ~ 1kHz 12-LGA (2x2); Manufacturer 1: Bosch Sensortec; Value: BMA223; Manufacturer Part Number 1: BMA223
footprint LGA-12-2x2
pins: 1 SDO, 2 SDx, 3 VDDIO, 5 INT1, 6 INT2, 7 VDD, 8 GNDIO, 9 GND, 10 CSB, 11 PS, 12 SCx

## CI ADC 22BIT 2.7V 1CH SPI MCP3551 8SOIC
designator U?, comment MCP3551
22 Bit Analog to Digital Converter 1 Input 1 Sigma-Delta 8-SOIC; Manufacturer 1: Microchip Technology; Part Number 1: MCP3551-E/SN; Supplier 1: Digi-Key; Supplier 2: Future Electronics; Supplier 3: Farnell; Supplier 4: Arrow; Supplier 5: Mouser; Supplier 6: RSComponents; Supplier 7: RSComponents; Supplier 8: Avnet; Supplier 9: Avnet; Supplier 10: RSComponents; Supplier 11: Newark; Supplier 12: Allied Electronics; Supplier 13: Newark; Supplier 14: RSComponents; Supplier 15: RSComponents; Supplier 16: RSComponents; Supplier 17: Future Electronics; Supplier 18: Future Electronics; Supplier Part Number 9: MCP3551-E/SN; Supplier Part Number 8: 22K1369; Supplier Part Number 7: 402-897; Supplier Part Number 6: 402897P; Supplier Part Number 5: 579-MCP3551-E/SN; Supplier Part Number 4: MCP3551-E/SN; Supplier Part Number 3: 1084625; Supplier Part Number 2: MCP3551-E/SN-TUBE; Supplier Part Number 18: 7502412; Supplier Part Number 17: MCP3551-E/SN; Supplier Part Number 16: 402897; Supplier Part Number 15: 402-897P; Supplier Part Number 14: 8767247; Supplier Part Number 13: 97K4494; Supplier Part Number 12: 70046149; Supplier Part Number 11: 22K1369; Supplier Part Number 10: 876-7247; Supplier Part Number 1: MCP3551-E/SN-ND
footprint SOIC-8N
pins: 1 VREF, 2 VIN+, 3 VIN-, 4 VSS, 5 SCK, 6 SDO~{/RDY}, 7 ~{CS}, 8 VDD

## CI CONTROLLR LI-ION 4.2V MCP73831T-2ACI/OT SOT23-5
designator U?, comment MCP73831T-2ATI/OT
Charger IC Lithium-Ion/Polymer SOT-23-5; Manufacturer 1: Microchip Technology; Manufacturer Part Number 1: MCP73831T-2ACI/OT; VALUE: MCP73831T-2ATI/OT; Supplier 1: Newark; Supplier 2: Newark; Supplier 3: RSComponents; Supplier 4: Digi-Key; Supplier 5: RSComponents; Supplier 6: Farnell; Supplier 7: Digi-Key; Supplier 8: RSComponents; Supplier 9: Digi-Key; Supplier 10: RSComponents; Supplier 11: Farnell; Supplier 12: Farnell; Supplier 13: Farnell; Supplier 14: Newark; Supplier Part Number 1: 84R8632; Supplier Part Number 2: 84R5196; Supplier Part Number 3: 738-6617; Supplier Part Number 4: MCP73831T-2ATI/OTTR-ND; Supplier Part Number 5: 738-6617P; Supplier Part Number 6: 1834890; Supplier Part Number 7: MCP73831T-2ATI/OTCT-ND; Supplier Part Number 8: 7386617; Supplier Part Number 9: MCP73831T-2ATI/OTDKR-ND; Supplier Part Number 10: 7386617P; Supplier Part Number 11: 1834890RL; Supplier Part Number 12: 2146142; Supplier Part Number 13: 2413496; Supplier Part Number 14: 56K7047
footprint SOT23-5
pins: 1 STAT, 2 GND, 3 VBAT, 4 VDD, 5 PROG

## CI FLASH 4MBIT AT25XE041B-MAHN-T 85MHZ 8UDFN
designator U?, comment AT25XE041B-MAHN-T
FLASH Memory IC 4Mb (512K x 8) SPI 85MHz  8-UDFN (2x3); Manufacturer 1: Adesto Technologies; Value: AT25XE041B-MAHN-T; Supplier 1: Digi-Key; Supplier 2: Digi-Key; Supplier 3: Digi-Key; Supplier Part Number 1: 1265-1146-6-ND; Supplier Part Number 2: 1265-1146-1-ND; Supplier Part Number 3: 1265-1146-2-ND; Manufacturer Part Number 1: AT25XE041B-MAHN-T
footprint UDFN8 (8-Lead Plastic Dual Flat, No  Lead Package - 2x3x0.5mm Body)
pins: 1 ~{CS}, 2 SO, 3 ~{WP}, 4 GND, 5 SI, 6 SCLK, 7 ~{HOLD}, 8 VCC

## CI LM92 SOIC8
designator U?, comment LM92CIM/NOPB
Temperature Sensor Digital, Local -55°C ~ 150°C 12 b 8-SOIC; Part Number 1: LM92CIMX/NOPB; Manufacturer 1: Texas Instruments; Value: LM92CIM/NOPB; Supplier 1: Newark; Supplier 2: Digi-Key; Supplier 3: Farnell; Supplier 4: Mouser; Supplier Part Number 1: 41K6491; Supplier Part Number 2: LM92CIMX/NOPBTR-ND; Supplier Part Number 3: 1150316; Supplier Part Number 4: 926-LM92CIMX/NOPB
footprint SOIC-8N
pins: 1 SDA, 2 SCL, 3 TCA, 4 GND, 5 INT, 6 A1, 7 A0, 8 +VS

## CI MAX17048 8-TDFN
designator U?, comment MAX17048G+
Battery Battery Monitor IC Lithium-Ion 8-TDFN-EP (2x2); Manufacturer 1: Maxim Integrated; Manufacturer Part Number 1: MAX17048G+T10; Value: MAX17048G+; Supplier 1: Digi-Key; Supplier 2: Digi-Key; Supplier Part Number 1: MAX17048G+T10-ND; Supplier Part Number 2: MAX17048G+-ND
footprint TDFN-8-EP
pins: 1 CTG, 2 CELL, 3 VDD, 4 GND, 5 ~{ALRT}, 6 QSTRT, 7 SCL, 8 SDA, 9 GND

## CI MX25V4006EM1I-13G 8SOP
designator U?, comment MX25V4006EM1I-13G
FLASH - NOR Memory IC 4Mb (512K x 8) SPI 75MHz  8-SOP; Manufacturer 1: Macronix; Value: MX25V4006EM1I-13G; Supplier 1: Digi-Key; Supplier Part Number 1: 1092-1115-ND; Manufacturer Part Number 1: MX25V4006EM1I-13G
footprint SOIC-8N
pins: 1 ~{CS}, 2 SO/SIO1, 3 ~{WR}, 4 GND, 5 SI/SIO0, 6 SCLK, 7 ~{HOLD}, 8 VCC

## CI PIC18F26J50-I/SS 28SSOP TR
designator U?, comment PIC18F26J50-I/SS
28-Pin, Low-Power, High-Performance USB Microcontrollers with nanoWatt XLP Technology; Value: PIC18F26J50-I/SS
footprint SSOP28
pins: 1 ~{MCLR}, 2 RA0/AN0/C1NA/ULPWU/RP0, 3 RA1/AN1/C2INA/RP1, 4 RA2/AN2/VREF-/CVREF/C2INB, 5 RA3/AN3/VREF+/C1INB, 6 VDDCORE/VCAP(2), 7 RA5/AN4/SS1/HLVDIN/RCV/RP2, 8 VSS, 9 OSC1/CLKI/RA7, 10 OSC2/CLKO/RA6, 11 RC0/T1OSO/T1CKI/RP11, 12 RC1/T1OSI/UOE/RP12, 13 RC2/AN11/CTPLS/RP13, 14 VUSB , 15 RC4/D-/VM, 16 RC5/D+/VP, 17 RC6/TX1/CK1/RP17, 18 RC7/RX1/DT1/SDO1/RP18, 19 VSS, 20 VDD , 21 RB0/AN12/INT0/RP3, 22 RB1/AN10/RTCC/RP4 , 23 RB2/AN8/CTEDG1/VMO/REFO/RP5 , 24 RB3/AN9/CTEDG2/VPO/RP6 , 25 RB4/KBI0/SCK1/SCL1/RP7 , 26 RB5/KBI1/SDI1/SDA1/RP8 , 27 RB6/KBI2/PGC/RP9 , 28 RB7/KBI3/PGD/RP10 
text: USB

## CI REG L7805ABD2T D2PAK TR
designator U?, comment L7805ABD2T
Linear Voltage Regulator IC Positive Fixed 1 Output  1.5A D2PAK; Supplier 1: Newark; Supplier 2: Farnell; Supplier 3: Mouser; Supplier 4: Newark; Supplier 5: Digi-Key; Supplier 6: Digi-Key; Supplier Part Number 1: 89K0779; Supplier Part Number 2: 1366571; Supplier Part Number 3: 511-L7805ABD2T-TR; Supplier Part Number 4: 56P8816; Supplier Part Number 5: 497-1170-6-ND; Supplier Part Number 6: 497-1170-1-ND; VALUE: L7805ABD2T
footprint TO-263-3-2
pins: 1 VIN, 2 GND, 3 VOUT

## CI REG LINEAR 3.3V 150MA TPS76333 SOT23-5
designator U?, comment TPS76333
Linear Voltage Regulator IC Positive Fixed 1 Output  150mA SOT-23-5; Manufacturer 1: Texas Instruments; VALUE: TPS76333DBVR; Part Number 1: TPS76333DBVR; Datasheet: http://www.ti.com/lit/ds/symlink/tps763.pdf
footprint SOT23-5
pins: 1 VIN, 2 GND, 3 EN, 4 NC, 5 OUT

## CI REG LINEAR 3V 50MA TPS79730DCKR SC70-5
designator U?, comment TPS79730DCKR
Linear Voltage Regulator IC Positive Fixed 1 Output 3V 50mA SC-70-5; Manufacturer 1: Texas Instruments; VALUE: TPS79730DCKR; Supplier 1: Digi-Key; Supplier 2: Farnell; Supplier 3: Newark; Supplier 4: Newark; Supplier 5: Farnell; Supplier 6: Newark; Supplier 7: Digi-Key; Supplier 8: Farnell; Supplier 9: Newark; Supplier 10: Digi-Key; Supplier 11: Digi-Key; Supplier 12: Newark; Supplier Part Number 1: 296-11989-6-ND; Supplier Part Number 2: 2764765; Supplier Part Number 3: 77C1375; Supplier Part Number 4: 93K0945; Supplier Part Number 5: 1135378; Supplier Part Number 6: 22AC3245; Supplier Part Number 7: 296-11989-1-ND; Supplier Part Number 8: 2437838; Supplier Part Number 9: 58K7017; Supplier Part Number 10: 296-11989-2-ND; Supplier Part Number 11: TPS79730DCKRG4-ND; Supplier Part Number 12: 24K6225; Manufacturer Part Number 1: TPS79730DCKR
footprint SC70-5
pins: 1 PG, 2 GND, 4 VIN, 5 VOUT

## CI REG LINEAR 3V 150MA LP3985IM5 SOT23-5
designator U?, comment LP3985IM5-3.0
Linear Voltage Regulator IC Positive Fixed 1 Output 3V 150mA SOT-23-5; Manufacturer 1: Texas Instruments; VALUE: LP3985IM5-3.0/NOPB; Supplier 1: Newark; Supplier 2: Farnell; Supplier 3: Farnell; Supplier 4: Farnell; Supplier 5: Farnell; Supplier 6: Newark; Supplier 7: Newark; Supplier 8: RSComponents; Supplier 9: RSComponents; Supplier 10: RSComponents; Supplier 11: Digi-Key; Supplier 12: Digi-Key; Supplier 13: Digi-Key; Supplier 14: Digi-Key; Supplier 15: Digi-Key; Supplier 16: RSComponents; Supplier 17: Digi-Key; Supplier Part Number 1: 41K7958; Supplier Part Number 2: 1469153; Supplier Part Number 3: 2412166; Supplier Part Number 4: 1469153RL; Supplier Part Number 5: 2436529; Supplier Part Number 6: 61M7588; Supplier Part Number 7: 28X3622; Supplier Part Number 8: 761-6703; Supplier Part Number 9: 7616703; Supplier Part Number 10: 761-6703P; Supplier Part Number 11: LP3985IM5X-3.0/NOPBCT-ND; Supplier Part Number 12: LP3985IM5X-3.0/NOPBDKR-ND; Supplier Part Number 13: LP3985IM5X-3.0/NOPBTR-ND; Supplier Part Number 14: LP3985IM5-3.0/NOPBDKR-ND; Supplier Part Number 15: LP3985IM5-3.0/NOPBCT-ND; Supplier Part Number 16: 7616703P; Supplier Part Number 17: LP3985IM5-3.0/NOPBTR-ND; Manufacturer Part Number 1: LP3985IM5-3.0/NOPB
footprint SOT23-5
pins: 1 VIN, 2 GND, 3 EN, 4 BYP, 5 VOUT

## CI REG LM2940IMP-10 SOT-223
designator U?, comment LM2940IMP-10
Linear Voltage Regulator IC Positive Fixed 1 Output  1A SOT-223-4; VALUE: LM2940IMP-10/NOPB; Supplier 1: Farnell; Supplier 2: Digi-Key; Supplier 3: Mouser; Supplier 4: Newark; Supplier Part Number 1: 2435949; Supplier Part Number 2: LM2940IMPX-10/NOPB-ND; Supplier Part Number 3: 926-LM2940IMPX10NOPB; Supplier Part Number 4: 87X5582
footprint SOT-223 - 4 (SOT223, 4-Leads, Body 6,7x7,3mm (max), Pitch 2,30mm, IPC High Density)
pins: 1 VIN, 2 GND, 3 VOUT, 4 GND

## CI REG LP3985IM5-3.0/NOPB SOT23-5
designator U?, comment LP3985IM5-3.0/NOPB
Linear Voltage Regulator IC Positive Fixed 1 Output  150mA SOT-23-5; Manufacturer 1: Texas Instruments; VALUE: LP3985IM5-3.0/NOPB; Supplier 1: RSComponents; Supplier 2: Digi-Key; Supplier 3: Farnell; Supplier 4: Farnell; Supplier 5: Digi-Key; Supplier 6: Farnell; Supplier 7: Farnell; Supplier 8: Newark; Supplier 9: Digi-Key; Supplier 10: RSComponents; Supplier 11: RSComponents; Supplier 12: Newark; Supplier 13: RSComponents; Supplier 14: Newark; Supplier Part Number 1: 761-6703P; Supplier Part Number 2: LP3985IM5-3.0/NOPBDKR-ND; Supplier Part Number 3: 1469153; Supplier Part Number 4: 1469153RL; Supplier Part Number 5: LP3985IM5-3.0/NOPBCT-ND; Supplier Part Number 6: 2436529; Supplier Part Number 7: 2412166; Supplier Part Number 8: 61M7588; Supplier Part Number 9: LP3985IM5-3.0/NOPBTR-ND; Supplier Part Number 10: 7616703; Supplier Part Number 11: 761-6703; Supplier Part Number 12: 28X3622; Supplier Part Number 13: 7616703P; Supplier Part Number 14: 41K7958; Manufacturer Part Number 1: LP3985IM5-3.0/NOPB
footprint SOT23-5
pins: 1 VIN, 2 GND, 3 EN, 4 BYP, 5 VOUT

## CI REG MCP16252 BOOST ADJ 100MA SOT23-6
designator U?, comment MCP16252T-I/CH
Switching Voltage Regulators; Manufacturer: Microchip; Manufacturer Part Number: MCP16252T-I/CH; Supplier 1: Mouser; Supplier Part Number 1: 579-MCP16252T-I/CH; Supplier Link 1: https://www.mouser.at/ProductDetail/Microchip-Technology/MCP16252T-I-CH?qs=sGAEpiMZZMtitjHzVIkrqbD93URdM9jft7YEhtTu2Rc%3d
footprint SOT23-6
pins: 1 SW, 2 GND, 3 EN, 4 VFB, 5 VOUT, 6 VIN

## CI REG MCP73831T-2ATI/OT SOT23-5
designator U?, comment MCP73831T-2ATI
Charger IC Lithium-Ion/Polymer SOT-23-5; VALUE: MCP73831T-2ATI/OT; Supplier 1: Digi-Key; Supplier 2: Farnell; Supplier 3: Digi-Key; Supplier 4: Allied; Supplier 5: Farnell; Supplier 6: Newark; Supplier 7: Newark; Supplier 8: Farnell; Supplier 9: Newark; Supplier 10: Farnell; Supplier 11: Digi-Key; Supplier Part Number 1: MCP73831T-2ATI/OTTR-ND; Supplier Part Number 2: 2413496; Supplier Part Number 3: MCP73831T-2ATI/OTCT-ND; Supplier Part Number 4: 70388655; Supplier Part Number 5: 1834890RL; Supplier Part Number 6: 84R5196; Supplier Part Number 7: 84R8632; Supplier Part Number 8: 2146142; Supplier Part Number 9: 56K7047; Supplier Part Number 10: 1834890; Supplier Part Number 11: MCP73831T-2ATI/OTDKR-ND
footprint SOT23-5
pins: 1 STAT, 2 GND, 3 VBAT, 4 VDD, 5 PROG

## CI REG NCP1117ST33T3G SOT223
designator U?, comment NCP1117ST33T3G
Linear Voltage Regulator IC Positive Fixed 1 Output  1A SOT-223; Manufacturer 1: ON Semiconductor; Supplier 1: Mouser; Supplier 2: Digi-Key; Supplier 3: Digi-Key; Supplier Part Number 1: 863-NCP1117ST33T3G; Supplier Part Number 2: NCP1117ST33T3GOSCT-ND; Supplier Part Number 3: NCP1117ST33T3GOSDKR-ND; VALUE: NCP1117ST33T3G; Manufacturer Part Number 1: NCP1117ST33T3G
footprint SOT-223 - 4 (SOT223, 4-Leads, Body 6,7x7,3mm (max), Pitch 2,30mm, IPC High Density)
pins: 1 GND, 2 VOUT, 3 VIN, 4 VOUT

## CI REG SP6203EM5-L-3-3 SOT23-5
designator U?, comment SP6203EM5-L-3-3
Linear Voltage Regulator IC Positive Fixed 1 Output  300mA SOT-23-5; Manufacturer 1: MaxLinear, Inc.; Supplier 1: Digi-Key; Supplier 2: Mouser; Supplier 3: Digi-Key; Supplier Part Number 1: 1016-1205-ND; Supplier Part Number 2: 701-SP6203EM5L33/TR; Supplier Part Number 3: SP6203EM5-L-3-3/TR-ND; Manufacturer Part Number 1: SP6203EM5-L-3-3; VALUE: SP6203EM5-L-3-3
footprint SOT23-5
pins: 1 VIN, 2 GND, 3 EN, 4 BYP, 5 VOUT

## CI REG SP6205EM5-L-3-3 SOT23-5
designator U?, comment SP6205EM5-L-3-3
Linear Voltage Regulator IC Positive Fixed 1 Output  500mA SOT-23-5; Manufacturer 1: MaxLinear, Inc.; Manufacturer Part Number 1: SP6205EM5-L-3-3/TR; Supplier 1: Mouser; Supplier 2: Mouser; Supplier 3: Digi-Key; Supplier Part Number 1: 701-SP6205EM5L33/TR; Supplier Part Number 2: 701-SP6205EM5-L-3-3; Supplier Part Number 3: 1016-1208-ND; VALUE: SP6205EM5-L-3-3
footprint SOT23-5
pins: 1 VIN, 2 GND, 3 EN, 4 BYP, 5 VOUT

## CI SN65HVD1781 SOIC-8
designator U?, comment SN65HVD1781
1/1 Transceiver Half RS422, RS485 8-SOIC; Manufacturer 1: Texas Instruments; Part Number 1: SN65HVD1781DR; Supplier 1: Farnell; Supplier 2: Newark; Supplier 3: Mouser; Supplier 4: Digi-Key; Supplier Part Number 1: 1703343; Supplier Part Number 2: 85M0100; Supplier Part Number 3: 595-SN65HVD1781DR; Supplier Part Number 4: 296-23118-1-ND; Value: SN65HVD1781
footprint SOIC-8N
pins: 1 R, 2 ~{RE}, 3 DE, 4 D, 5 GND, 6 A, 7 ~{B}, 8 VCC

## CI SN65HVD1785 SOIC-8
designator U?, comment SN65HVD1785
CI SN65HVD1785 SOIC-8; Supplier 1: Farnell; Supplier 2: Mouser; Supplier 3: Newark; Supplier 4: Digi-Key; Supplier 5: Digi-Key; Supplier Part Number 1: 1755057; Supplier Part Number 2: 595-SN65HVD1785DR; Supplier Part Number 3: 94M9570; Supplier Part Number 4: 296-39174-2-ND; Supplier Part Number 5: SN65HVD1785DRG4-ND; Value: SN65HVD1785
footprint SOIC-8N
pins: 1 R, 2 ~{RE}, 3 DE, 4 D, 5 GND, 6 A, 7 ~{B}, 8 VCC

## CI SN74LVC2T45 TSSOP8
designator U?, comment SN74LVC2T45DCTR
Voltage Level Translator Bidirectional 1 Circuit 2 Channel 420Mbps SM8 (SSOP); Manufacturer 1: Texas Instruments; Supplier 1: Farnell; Supplier 2: Digi-Key; Supplier 3: Newark; Supplier 4: Mouser; Supplier Part Number 1: 2412409; Supplier Part Number 2: 296-16845-2-ND; Supplier Part Number 3: 28X3899; Supplier Part Number 4: 595-SN74LVC2T45DCTE4; Part Number 1: SN74LVC2T45DCTR
footprint TSSOP8 (TSSOP, 8-Leads, Body 2.95x2.80mm, Pitch 0.65mm, IPC Medium Density)
pins: 1 VCCA, 2 A1, 3 A2, 4 GND, 5 DIR, 6 B2, 7 B1, 8 VCCB

## CI SST25VF010A-33 SOIC-8
designator U?, comment SST25VF010A
FLASH Memory IC 1Mb (128K x 8) SPI 33MHz  8-SOIC; Manufacturer Part Number 1: SST25VF010A-33-4I-SAE-T; Manufacturer 1: Microchip Technology; Value: SST25VF010A-33-4I-SAE; Supplier 1: Newark; Supplier 2: Farnell; Supplier 3: Digi-Key; Supplier 4: Mouser; Supplier Part Number 1: 54M1121; Supplier Part Number 2: 1829949; Supplier Part Number 3: SST25VF010A-33-4I-SAE-ND; Supplier Part Number 4: 804-25VF010A3ISAE
footprint SOIC-8N
pins: 1 ~{CE}, 2 SO, 3 ~{WP}, 4 VSS, 5 SI, 6 SCK, 7 ~{HOLD}, 8 VDD

## CI SWITCH TS3A4741DCNR DUAL SPST SOT23-8
designator U?, comment TS3A4741DCNR
2 Circuit IC Switch 1:1 900mOhm SOT-23-8; Manufacturer 1: Texas Instruments; VALUE: TS3A4741DCNR; Part Number 1: TS3A4741DCNR
footprint SOT23-8
part A pins: 1 IN, 7 COM, 8 NO
part B pins: 3 NO, 4 COM, 6 IN
part C pins: 2 VCC, 5 GND